# Altium footprint library C1210X474KARACAUTO.PcbLib: 1 footprints
Each footprint in its own frame and in the unit in brackets; x right, y up, seen from the top. Pads: shape width x height; smd on the part's side, far side on the other; paste and mask are expansions set on the pad; w line width, h text height; cw(c..) or ccw(c..) is an arc to the next point about the centre after c.
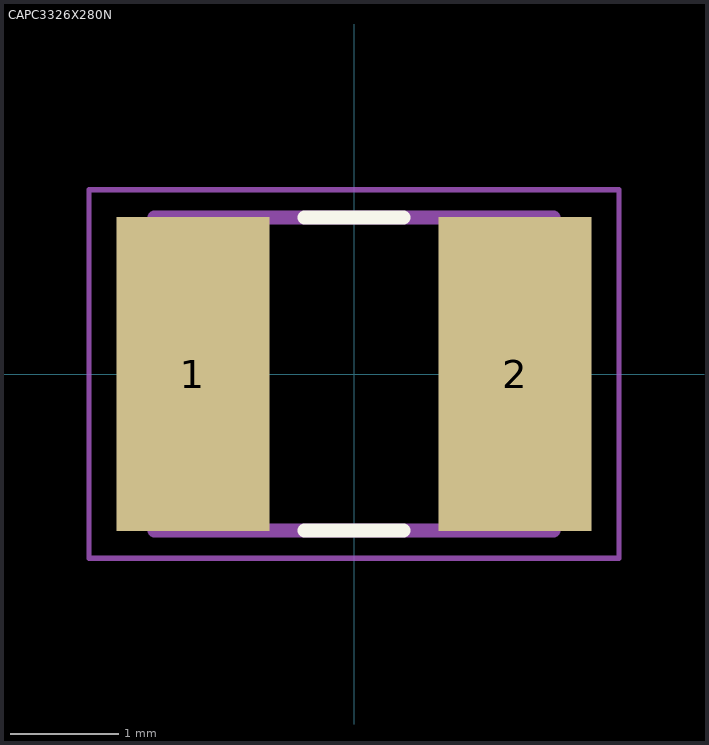
[diagram p0: the footprint, top view; thin cyan lines are the x and y axes]

## CAPC3326X280N [mm]
pads (2):
  rect 1.42x2.91 smd: 1(-1.492,0) 2(1.492,0)
Top Overlay:
  lines w0.127: -0.46,-1.45 0.46,-1.45 ; -0.46,1.45 0.46,1.45
Mechanical 13:
  lines w0.127: -1.85,-1.45 -1.85,1.45 1.85,1.45 1.85,-1.45 -1.85,-1.45
Mechanical 15:
  lines w0.05: -2.454,-1.705 -2.454,1.705 2.454,1.705 2.454,-1.705 -2.454,-1.705
3D body "step_temp.STEP": height 2.8, standoff 0, extent -1.65,-1.3 1.65,1.3